# EAGLE library part 5569-08A2 (library con-Molex)
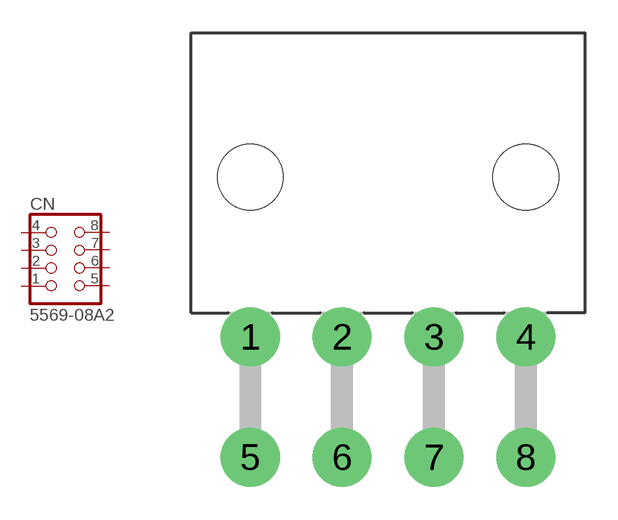
[diagram p15: symbol with the pads of 5569-08A2; footprint 5569-08A2]

Designator prefix CN

## 5569-08A2  [5569-08A2]
1  1  pas
2  2  pas
3  3  pas
4  4  pas
5  5  pas
6  6  pas
7  7  pas
8  8  pas

## Footprint 5569-08A2 (pad centres in mm)
drill 1.8 pad 2.4: 1 -6.3,-7.3; 2 -2.1,-7.3; 3 2.1,-7.3; 4 6.3,-7.3; 5 -6.3,-12.8; 6 -2.1,-12.8; 7 2.1,-12.8; 8 6.3,-12.8
hole 3 at -6.3,0
hole 3 at 6.3,0